# Altium schematic symbol library TLV3501DBV.Schlib: 1 symbol
Pins are listed as number, name and electrical type; pins without a type are passive.

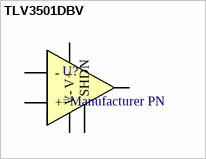
[diagram p0: symbol TLV3501DBV]

## TLV3501DBV
designator U?
6-pin TLV3501
pins: 1 -, 2 V-, 3 +, 4 V+, 5 OUT, 6 SHDN